# Altium schematic symbol library CAP - C0603X473K1RACTU.SchLib: 1 symbol
Pins are listed as number, name and electrical type; pins without a type are passive.

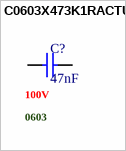
[diagram p0: symbol C0603X473K1RACTU]

## C0603X473K1RACTU
designator C?, comment 47nF  .Case/Package: 0603  .Voltage Rating (DC): 100V
Multilayer Ceramic Capacitors MLCC - SMD/SMT 100V 0.047uF X7R 0603 10% Flex Soft; Manufacturer: KEMET; Manufacturer Part Number: C0603X473K1RACTU; Supplier: Mouser; Supplier Part Number: 80-C0603X473K1R; RoHS: Compliant; Category: Ceramic Capacitors; Stock: 189; Pricing: 1=0,44, 10=0,198, 50=0,198, 100=0,162, 1000=0,131, 10000=0,101 (USD); Value: 47nF; Case/Package: 0603; Case Code (Imperial): 0603; Case Code (Metric): 1608; China RoHS: Compliant; Depth: 800µm; Dielectric: X7R; Dielectric Material: Ceramic; Features: Soft Termination; Height: 800µm; Length: 1.6mm; Lifecycle Status: Production; Max Operating Temperature: 125°C; Min Operating Temperature: -55°C; Mounting Technology: Surface Mount; Number of Terminals: 2; Packaging: Tape and Reel; REACH SVHC: Yes; Termination: SMD/SMT; Thickness: 863.6µm; Tolerance: 10%; Voltage Rating: 100V; Voltage Rating (DC): 100V; Width: 800µm; ComponentLink1URL: https://datasheet.octopart.com:443/C0603X473K1RACTU-KEMET-datasheet-182040354.pdf?src-supplier=IHS; ComponentLink1Description: https://datasheet.octopart.com:443/C0603X473K1RACTU-KEMET-datasheet-182040354.pdf?src-supplier=IHS; ComponentLink2URL: https://datasheet.octopart.com:443/C0603X473K1RACTU-KEMET-datasheet-149523211.pdf?src-supplier=Farnell; ComponentLink2Description: https://datasheet.octopart.com:443/C0603X473K1RACTU-KEMET-datasheet-149523211.pdf?src-supplier=Farnell; ComponentLink3URL: https://datasheet.octopart.com:443/C0603X473K1RACTU-KEMET-datasheet-182910228.pdf?src-supplier=Farnell; ComponentLink3Description: https://datasheet.octopart.com:443/C0603X473K1RACTU-KEMET-datasheet-182910228.pdf?src-supplier=Farnell; ComponentLink4URL: https://datasheet.octopart.com:443/C0603X473K1RACTU-KEMET-datasheet-158079525.pdf?src-supplier=Electro+Sonic; ComponentLink4Description: https://datasheet.octopart.com:443/C0603X473K1RACTU-KEMET-datasheet-158079525.pdf?src-supplier=Electro+Sonic; ComponentLink5URL: https://datasheet.octopart.com:443/C0603X473K1RACTU-KEMET-datasheet-189885820.pdf?src-supplier=element14+APAC; ComponentLink5Description: https://datasheet.octopart.com:443/C0603X473K1RACTU-KEMET-datasheet-189885820.pdf?src-supplier=element14+APAC; ComponentLink6URL: https://datasheet.octopart.com/C0603X473K1RACTU-KEMET-datasheet-84169754.pdf; ComponentLink6Description: https://datasheet.octopart.com/C0603X473K1RACTU-KEMET-datasheet-84169754.pdf; ComponentLink7URL: https://datasheet.octopart.com:443/C0603X473K1RACTU-KEMET-datasheet-182857673.pdf?src-supplier=Newark; ComponentLink7Description: https://datasheet.octopart.com:443/C0603X473K1RACTU-KEMET-datasheet-182857673.pdf?src-supplier=Newark; Supplier 1: Mouser; Supplier Part Number 1: 80-C0603X473K1R
footprint C0603 - KEMET (Chip Capacitor, 2-Leads, Body 1,60x0,80mm, IPC Medium Density)
pins: 1, 2